# Altium schematic symbol library DG301.SchLib: 11 symbols
Pins are listed as number, name and electrical type; pins without a type are passive.

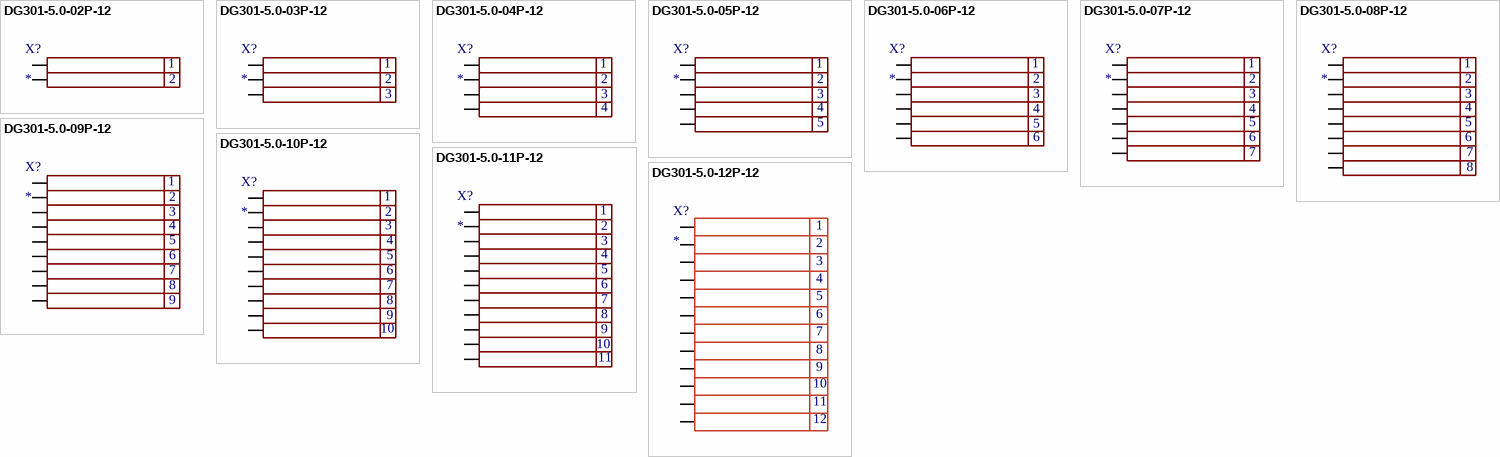
[diagram p0: symbols DG301-5.0-02P-12 to DG301-5.0-12P-12]

## DG301-5.0-02P-12
designator X?
footprint DG301-5.0-02P-12
pins: 1, 2

## DG301-5.0-03P-12
designator X?
footprint DG301-5.0-03P-12
pins: 1, 2, 3

## DG301-5.0-04P-12
designator X?
footprint DG301-5.0-04P-12
pins: 1, 2, 3, 4

## DG301-5.0-05P-12
designator X?
footprint DG301-5.0-05P-12
pins: 1, 2, 3, 4, 5

## DG301-5.0-06P-12
designator X?
footprint DG301-5.0-06P-12
pins: 1, 2, 3, 4, 5, 6

## DG301-5.0-07P-12
designator X?
footprint DG301-5.0-07P-12
pins: 1, 2, 3, 4, 5, 6, 7

## DG301-5.0-08P-12
designator X?
footprint DG301-5.0-08P-12
pins: 1, 2, 3, 4, 5, 6, 7, 8

## DG301-5.0-09P-12
designator X?
footprint DG301-5.0-09P-12
pins: 1, 2, 3, 4, 5, 6, 7, 8, 9

## DG301-5.0-10P-12
designator X?
footprint DG301-5.0-10P-12
pins: 1, 2, 3, 4, 5, 6, 7, 8, 9, 10

## DG301-5.0-11P-12
designator X?
footprint DG301-5.0-11P-12
pins: 1, 2, 3, 4, 5, 6, 7, 8, 9, 10, 11

## DG301-5.0-12P-12
designator X?
footprint DG301-5.0-12P-12
pins: 1, 2, 3, 4, 5, 6, 7, 8, 9, 10, 11, 12